# Altium schematic symbol library Diode - TVS.SchLib: 371 symbols (part 1 of 6)
Pins are listed as number, name and electrical type; pins without a type are passive.

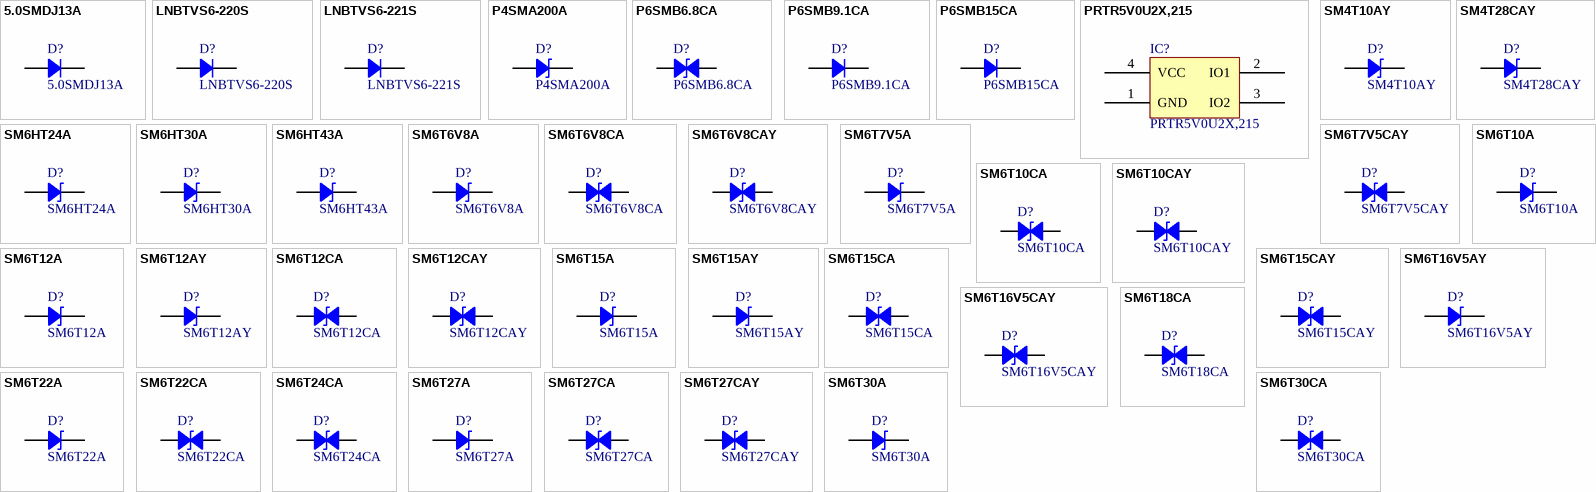
[diagram p0: symbols 5.0SMDJ13A to SM6T30CA]

## 5.0SMDJ13A
designator D?
TVS DIODE 13VWM 21.5VC SMD; Manufacturer: Littelfuse Inc.; Type: Surface Mount; Power - Peak Pulse: 5000W (5kW); Current - Peak Pulse: 233A; Voltage (Clamping): 21.5V; Voltage (Breakdown): 14.4V; Voltage (Reverse Standoff): 13V; Part Number: 5.0SMDJ13A; PartId: 7775; Supplier 1: Digi-Key; Supplier Part Number 1: F6609TR-ND; ComponentLink1Description: Datasheet; ComponentLink1URL: http://www.littelfuse.com/products/tvs-diodes/surface-mount/~/media/electronics/datasheets/tvs_diodes/littelfuse_tvs_diode_5_0smdj_datasheet.pdf.pdf; ComponentLink2Description: Digi-Key Listing; ComponentLink2URL: http://www.digikey.ca/product-detail/en/5.0SMDJ13A/F6609TR-ND/2024306; Operating Temperature: -55C ~ 150C (TJ); Price: 1.0417; Device Package: DO-214AB, SMC
footprint DO214AB SMC
pins: 1, 2

## LNBTVS6-220S
designator D?
TVS DIODE 20VWM 35VC SMC; Manufacturer: STMicroelectronics; Type: Surface Mount; Power - Peak Pulse: 22500 (22.5kW); Current - Peak Pulse: 500A (8/20us); Voltage (Clamping): 35V; Voltage (Breakdown): 22V; Voltage (Reverse Standoff): 20V; Part Number: LNBTVS6-220S; PartId: 7783; Supplier 1: Digi-Key; Supplier Part Number 1: 497-4997-2-ND; ComponentLink1Description: Datasheet; ComponentLink1URL: http://www.st.com/web/en/resource/technical/document/datasheet/CD00283815.pdf; ComponentLink2Description: Digi-Key Listing; ComponentLink2URL: http://www.digikey.ca/product-detail/en/LNBTVS6-220S/497-4997-2-ND/1007411; Operating Temperature: -55C ~ 150C (TJ); Price: 0.5582; Device Package: DO-214AB, SMC
footprint DO214AB SMC
pins: 1, 2

## LNBTVS6-221S
designator D?
TVS DIODE 20VWM 32VC SMC; Manufacturer: STMicroelectronics; Type: Surface Mount; Power - Peak Pulse: 22500 (22.5kW); Current - Peak Pulse: 500A (8/20us); Voltage (Clamping): 32V; Voltage (Breakdown): 22V; Voltage (Reverse Standoff): 20V; Part Number: LNBTVS6-221S; PartId: 7784; Supplier 1: Digi-Key; Supplier Part Number 1: 497-4998-2-ND; ComponentLink1Description: Datasheet; ComponentLink1URL: http://www.st.com/web/en/resource/technical/document/datasheet/CD00283815.pdf; ComponentLink2Description: Digi-Key Listing; ComponentLink2URL: http://www.digikey.ca/product-detail/en/LNBTVS6-221S/497-4998-2-ND/1007412; Operating Temperature: -55C ~ 150C (TJ); Price: 0.6787; Device Package: DO-214AB, SMC
footprint DO214AB SMC
pins: 1, 2

## P4SMA200A
designator D?
TVS DIODE 171VWM 274VC DO214AC; Manufacturer: Bourns Inc.; Type: Zener; Unidirectional Channels: 1; Power - Peak Pulse: 400W; Current - Peak Pulse: 1.5A; Voltage (Clamping): 274V; Voltage (Breakdown): 190V; Voltage (Reverse Standoff): 171V; Part Number: P4SMA200A; PartId: 14907; Supplier 1: Digi-Key; Supplier Part Number 1: P4SMA200ABBTR-ND; ComponentLink1Description: Datasheet; ComponentLink1URL: http://www.bourns.com/docs/Product-Datasheets/P4SMA.pdf; ComponentLink2Description: Digi-Key Listing; ComponentLink2URL: https://www.digikey.com/product-detail/en/bourns-inc/P4SMA200A/P4SMA200ABBTR-ND/5313711; Operating Temperature: -55C ~ 150C (TJ); Price: 0.0928; Device Package: DO-214AC, SMA
footprint Bourns DO214AC SMA
pins: 1, 2

## P6SMB6.8CA
designator D?
TVS DIODE 5.8VWM 10.5VC DO214AA; Manufacturer: Bourns Inc.; Type: Zener; Bidirectional Channels: 1; Power - Peak Pulse: 600W; Current - Peak Pulse: 58.1A; Voltage (Clamping): 10.5V; Voltage (Breakdown): 6.45V; Voltage (Reverse Standoff): 5.8V; Part Number: P6SMB6.8CA; PartId: 14722; Supplier 1: Digi-Key; Supplier Part Number 1: P6SMB6.8CABBTR-ND; ComponentLink1Description: Datasheet; ComponentLink1URL: http://www.bourns.com/docs/Product-Datasheets/P6SMB.pdf; ComponentLink2Description: Digi-Key Listing; ComponentLink2URL: https://www.digikey.com/product-detail/en/bourns-inc/P6SMB6.8CA/P6SMB6.8CABBTR-ND/5313715; Operating Temperature: -55C ~ 150C (TJ); Price: 0.1126; Device Package: DO-214AA, SMB
footprint BOURNS DO214AA SMB
pins: 1, 2

## P6SMB9.1CA
designator D?
TVS DIODE 7.78VWM 13.4VC SMD; Manufacturer: Littelfuse Inc.; Type: Surface Mount; Power - Peak Pulse: 600W; Current - Peak Pulse: 45.5A; Voltage (Clamping): 13.4V; Voltage (Breakdown): 8.65V; Voltage (Reverse Standoff): 7.78V; Part Number: P6SMB9.1CA; PartId: 7766; Supplier 1: Digi-Key; Supplier Part Number 1: P6SMB9.1CALFTR-ND; ComponentLink1Description: Datasheet; ComponentLink1URL: http://www.littelfuse.com/~/media/electronics/datasheets/tvs_diodes/littelfuse_tvs_diode_p6smb_datasheet.pdf.pdf; ComponentLink2Description: Digi-Key Listing; ComponentLink2URL: http://www.digikey.ca/product-detail/en/P6SMB9.1CA/P6SMB9.1CALFTR-ND/1766646; Operating Temperature: -55C ~ 150C (TJ); Price: 0.2401; Device Package: DO-214AA, SMB
footprint DO214AA SMB
pins: 1, 2

## P6SMB15CA
designator D?
TVS DIODE 12.8VWM 21.2VC SMD; Manufacturer: Littelfuse Inc.; Type: Surface Mount; Power - Peak Pulse: 600W; Current - Peak Pulse: 28.8A; Voltage (Clamping): 21.2V; Voltage (Breakdown): 14.3V; Voltage (Reverse Standoff): 12.8V; Part Number: P6SMB15CA; PartId: 7771; Supplier 1: Digi-Key; Supplier Part Number 1: P6SMB15CALFTR-ND; ComponentLink1Description: Datasheet; ComponentLink1URL: http://www.littelfuse.com/~/media/electronics/datasheets/tvs_diodes/littelfuse_tvs_diode_p6smb_datasheet.pdf.pdf; ComponentLink2Description: Digi-Key Listing; ComponentLink2URL: http://www.digikey.ca/product-detail/en/P6SMB15CA/P6SMB15CALFTR-ND/1766581; Operating Temperature: -55C ~ 150C (TJ); Price: 0.2401; Device Package: DO-214AA, SMB
footprint DO214AA SMB
pins: 1, 2

## PRTR5V0U2X,215
designator IC?
TVS DIODE 5.5VWM SOT143B; Manufacturer: NXP Semiconductors; Voltage (Breakdown): 6V; Voltage (Reverse Standoff): 5.5V (Max); Part Number: PRTR5V0U2X,215; PartId: 9755; Supplier 1: Digi-Key; Supplier Part Number 1: 568-4140-2-ND; ComponentLink1Description: Datasheet; ComponentLink1URL: http://www.nxp.com/documents/data_sheet/PRTR5V0U2X.pdf; ComponentLink2Description: Digi-Key Listing; ComponentLink2URL: http://www.digikey.com/product-detail/en/nxp-semiconductors/PRTR5V0U2X,215/568-4140-2-ND/1163690; Operating Temperature: -40C ~ 85C (TA); Price: 0.1794; Type: Steering (Rail to Rail); Device Package: TO-253-4, TO-253AA; Power - Peak Pulse: -; Current - Peak Pulse: -; Voltage (Clamping): -
footprint SOT143B
pins: 1 GND, 2 IO1, 3 IO2, 4 VCC

## SM4T10AY
designator D?
TVS DIODE 8.5VWM 19.5VC SMA; Manufacturer: STMicroelectronics; Type: Zener; Unidirectional Channels: 1; Power - Peak Pulse: 400W; Current - Peak Pulse: 124A (8/20us); Voltage (Clamping): 19.5V; Voltage (Breakdown): 9.4V; Voltage (Reverse Standoff): 8.5V; Part Number: SM4T10AY; PartId: 14931; Supplier 1: Digi-Key; Supplier Part Number 1: 497-11788-2-ND; ComponentLink1Description: Datasheet; ComponentLink1URL: http://www.st.com/web/en/resource/technical/document/datasheet/CD00283395.pdf; ComponentLink2Description: Digi-Key Listing; ComponentLink2URL: https://www.digikey.com/product-detail/en/stmicroelectronics/SM4T10AY/497-11788-2-ND/2756431; Operating Temperature: -55C ~ 150C (TJ); Price: 0.174; Device Package: DO-214AC, SMA
footprint ST DO214AC SMA
pins: 1, 2

## SM4T28CAY
designator D?
TVS DIODE 24VWM 50VC SMA; Manufacturer: STMicroelectronics; Type: Zener; Bidirectional Channels: 1; Power - Peak Pulse: 400W; Current - Peak Pulse: 46A (8/20us); Voltage (Clamping): 50V; Voltage (Breakdown): 26.7V; Voltage (Reverse Standoff): 24V; Part Number: SM4T28CAY; PartId: 14958; Supplier 1: Digi-Key; Supplier Part Number 1: 497-10917-2-ND; ComponentLink1Description: Datasheet; ComponentLink1URL: http://www.st.com/web/en/resource/technical/document/datasheet/CD00283395.pdf; ComponentLink2Description: Digi-Key Listing; ComponentLink2URL: https://www.digikey.com/product-detail/en/stmicroelectronics/SM4T28CAY/497-10917-2-ND/2522440; Operating Temperature: -55C ~ 150C (TJ); Price: 0.3105; Device Package: DO-214AC, SMA
footprint ST DO214AC SMA
pins: 1, 2

## SM6HT24A
designator D?
TVS DIODE 20.5VWM 33.2VC SMB; Manufacturer: STMicroelectronics; Type: Zener; Unidirectional Channels: 1; Power - Peak Pulse: 600W; Current - Peak Pulse: 18A; Voltage (Clamping): 33.2V; Voltage (Breakdown): 22.8V; Voltage (Reverse Standoff): 20.5V; Part Number: SM6HT24A; PartId: 14656; Supplier 1: Digi-Key; Supplier Part Number 1: 497-7423-2-ND; ComponentLink1Description: Datasheet; ComponentLink1URL: http://www.st.com/web/en/resource/technical/document/datasheet/CD00001782.pdf; ComponentLink2Description: Digi-Key Listing; ComponentLink2URL: https://www.digikey.com/product-detail/en/stmicroelectronics/SM6HT24A/497-7423-2-ND/1039063; Operating Temperature: -65C ~ 175C (TJ); Price: 0.2755; Device Package: DO-214AA, SMB
footprint ST DO214AA SMB
pins: 1, 2

## SM6HT30A
designator D?
TVS DIODE 25.6VWM DO214AA; Manufacturer: STMicroelectronics; Type: Zener; Unidirectional Channels: 1; Power - Peak Pulse: 600W; Current - Peak Pulse: 14.5A; Voltage (Clamping): 41.5V; Voltage (Breakdown): 28.5V; Voltage (Reverse Standoff): 25.6V; Part Number: SM6HT30A; PartId: 14655; Supplier 1: Digi-Key; Supplier Part Number 1: 497-3506-2-ND; ComponentLink1Description: Datasheet; ComponentLink1URL: http://www.st.com/web/en/resource/technical/document/datasheet/CD00001782.pdf; ComponentLink2Description: Digi-Key Listing; ComponentLink2URL: https://www.digikey.com/product-detail/en/stmicroelectronics/SM6HT30A/497-3506-2-ND/669347; Operating Temperature: -65C ~ 175C (TJ); Price: 0.2242; Device Package: DO-214AA, SMB
footprint ST DO214AA SMB
pins: 1, 2

## SM6HT43A
designator D?
TVS DIODE 36.8VWM 59.3VC SMB; Manufacturer: STMicroelectronics; Type: Zener; Unidirectional Channels: 1; Power - Peak Pulse: 600W; Current - Peak Pulse: 10.1A; Voltage (Clamping): 59.3V; Voltage (Breakdown): 40.9V; Voltage (Reverse Standoff): 36.8V; Part Number: SM6HT43A; PartId: 14657; Supplier 1: Digi-Key; Supplier Part Number 1: 497-7425-2-ND; ComponentLink1Description: Datasheet; ComponentLink1URL: http://www.st.com/web/en/resource/technical/document/datasheet/CD00001782.pdf; ComponentLink2Description: Digi-Key Listing; ComponentLink2URL: https://www.digikey.com/product-detail/en/stmicroelectronics/SM6HT43A/497-7425-2-ND/1039067; Operating Temperature: -65C ~ 175C (TJ); Price: 0.2755; Device Package: DO-214AA, SMB
footprint ST DO214AA SMB
pins: 1, 2

## SM6T6V8A
designator D?
TVS DIODE 5.8VWM 13.4VC SMB; Manufacturer: STMicroelectronics; Type: Zener; Unidirectional Channels: 1; Power - Peak Pulse: 600W; Current - Peak Pulse: 298A (8/20us); Voltage (Clamping): 13.4V; Voltage (Breakdown): 6.45V; Voltage (Reverse Standoff): 5.8V; Part Number: SM6T6V8A; PartId: 14626; Supplier 1: Digi-Key; Supplier Part Number 1: 497-6501-2-ND; ComponentLink1Description: Datasheet; ComponentLink1URL: http://www.st.com/web/en/resource/technical/document/datasheet/CD00000725.pdf; ComponentLink2Description: Digi-Key Listing; ComponentLink2URL: https://www.digikey.com/product-detail/en/stmicroelectronics/SM6T6V8A/497-6501-2-ND/1039097; Operating Temperature: -55C ~ 150C (TJ); Price: 0.1072; Device Package: DO-214AA, SMB
footprint ST DO214AA SMB
pins: 1, 2

## SM6T6V8CA
designator D?
TVS DIODE 5.8VWM 13.4VC DO214AA; Manufacturer: STMicroelectronics; Type: Zener; Bidirectional Channels: 1; Power - Peak Pulse: 600W; Current - Peak Pulse: 298A (8/20us); Voltage (Clamping): 13.4V; Voltage (Breakdown): 6.45V; Voltage (Reverse Standoff): 5.8V; Part Number: SM6T6V8CA; PartId: 14671; Supplier 1: Digi-Key; Supplier Part Number 1: 497-2995-2-ND; ComponentLink1Description: Datasheet; ComponentLink1URL: http://www.st.com/web/en/resource/technical/document/datasheet/CD00000725.pdf; ComponentLink2Description: Digi-Key Listing; ComponentLink2URL: https://www.digikey.com/product-detail/en/stmicroelectronics/SM6T6V8CA/497-2995-2-ND/634759; Operating Temperature: -55C ~ 150C (TJ); Price: 0.1435; Device Package: DO-214AA, SMB
footprint ST DO214AA SMB
pins: 1, 2

## SM6T6V8CAY
designator D?
TVS DIODE 5.8VWM 13.4VC SMB; Manufacturer: STMicroelectronics; Type: Zener; Bidirectional Channels: 1; Power - Peak Pulse: 600W; Current - Peak Pulse: 298A (8/20us); Voltage (Clamping): 13.4V; Voltage (Breakdown): 6.45V; Voltage (Reverse Standoff): 5.8V; Part Number: SM6T6V8CAY; PartId: 14704; Supplier 1: Digi-Key; Supplier Part Number 1: 497-11813-2-ND; ComponentLink1Description: Datasheet; ComponentLink1URL: http://www.st.com/web/en/resource/technical/document/datasheet/CD00279657.pdf; ComponentLink2Description: Digi-Key Listing; ComponentLink2URL: https://www.digikey.com/product-detail/en/stmicroelectronics/SM6T6V8CAY/497-11813-2-ND/2756532; Operating Temperature: -55C ~ 150C (TJ); Price: 0.2334; Device Package: DO-214AA, SMB
footprint ST DO214AA SMB
pins: 1, 2

## SM6T7V5A
designator D?
TVS DIODE 6.4VWM 14.5VC SMB; Manufacturer: STMicroelectronics; Type: Zener; Unidirectional Channels: 1; Power - Peak Pulse: 600W; Current - Peak Pulse: 276A (8/20us); Voltage (Clamping): 14.5V; Voltage (Breakdown): 7.13V; Voltage (Reverse Standoff): 6.4V; Part Number: SM6T7V5A; PartId: 14643; Supplier 1: Digi-Key; Supplier Part Number 1: 497-7439-2-ND; ComponentLink1Description: Datasheet; ComponentLink1URL: http://www.st.com/web/en/resource/technical/document/datasheet/CD00000725.pdf; ComponentLink2Description: Digi-Key Listing; ComponentLink2URL: https://www.digikey.com/product-detail/en/stmicroelectronics/SM6T7V5A/497-7439-2-ND/1039098; Operating Temperature: -55C ~ 150C (TJ); Price: 0.1336; Device Package: DO-214AA, SMB
footprint ST DO214AA SMB
pins: 1, 2

## SM6T7V5CAY
designator D?
TVS DIODE 6.4VWM 14.5VC SMB; Manufacturer: STMicroelectronics; Type: Zener; Bidirectional Channels: 1; Power - Peak Pulse: 600W; Current - Peak Pulse: 276A (8/20us); Voltage (Clamping): 14.5V; Voltage (Breakdown): 7.13V; Voltage (Reverse Standoff): 6.4V; Part Number: SM6T7V5CAY; PartId: 14705; Supplier 1: Digi-Key; Supplier Part Number 1: 497-11816-2-ND; ComponentLink1Description: Datasheet; ComponentLink1URL: http://www.st.com/web/en/resource/technical/document/datasheet/CD00279657.pdf; ComponentLink2Description: Digi-Key Listing; ComponentLink2URL: https://www.digikey.com/product-detail/en/stmicroelectronics/SM6T7V5CAY/497-11816-2-ND/2756541; Operating Temperature: -55C ~ 150C (TJ); Price: 0.2334; Device Package: DO-214AA, SMB
footprint ST DO214AA SMB
pins: 1, 2

## SM6T10A
designator D?
TVS DIODE 8.55VWM 18.6VC SMB; Manufacturer: STMicroelectronics; Type: Zener; Unidirectional Channels: 1; Power - Peak Pulse: 600W; Current - Peak Pulse: 215A (8/20us); Voltage (Clamping): 18.6V; Voltage (Breakdown): 9.5V; Voltage (Reverse Standoff): 8.55V; Part Number: SM6T10A; PartId: 14644; Supplier 1: Digi-Key; Supplier Part Number 1: 497-14166-2-ND; ComponentLink1Description: Datasheet; ComponentLink1URL: http://www.st.com/web/en/resource/technical/document/datasheet/CD00000725.pdf; ComponentLink2Description: Digi-Key Listing; ComponentLink2URL: https://www.digikey.com/product-detail/en/stmicroelectronics/SM6T10A/497-14166-2-ND/1039070; Operating Temperature: -55C ~ 150C (TJ); Price: 0.1336; Device Package: DO-214AA, SMB
footprint ST DO214AA SMB
pins: 1, 2

## SM6T10CA
designator D?
TVS DIODE 8.55VWM 18.6VC SMB; Manufacturer: STMicroelectronics; Type: Zener; Bidirectional Channels: 1; Power - Peak Pulse: 600W; Current - Peak Pulse: 215A (8/20us); Voltage (Clamping): 18.6V; Voltage (Breakdown): 9.5V; Voltage (Reverse Standoff): 8.55V; Part Number: SM6T10CA; PartId: 14673; Supplier 1: Digi-Key; Supplier Part Number 1: 497-7427-2-ND; ComponentLink1Description: Datasheet; ComponentLink1URL: http://www.st.com/web/en/resource/technical/document/datasheet/CD00000725.pdf; ComponentLink2Description: Digi-Key Listing; ComponentLink2URL: https://www.digikey.com/product-detail/en/stmicroelectronics/SM6T10CA/497-7427-2-ND/1039071; Operating Temperature: -55C ~ 150C (TJ); Price: 0.1435; Device Package: DO-214AA, SMB
footprint ST DO214AA SMB
pins: 1, 2

## SM6T10CAY
designator D?
TVS DIODE 8.55VWM 18.6VC SMB; Manufacturer: STMicroelectronics; Type: Zener; Bidirectional Channels: 1; Power - Peak Pulse: 600W; Current - Peak Pulse: 215A (8/20us); Voltage (Clamping): 18.6V; Voltage (Breakdown): 9.5V; Voltage (Reverse Standoff): 8.55V; Part Number: SM6T10CAY; PartId: 14707; Supplier 1: Digi-Key; Supplier Part Number 1: 497-11804-2-ND; ComponentLink1Description: Datasheet; ComponentLink1URL: http://www.st.com/web/en/resource/technical/document/datasheet/CD00279657.pdf; ComponentLink2Description: Digi-Key Listing; ComponentLink2URL: https://www.digikey.com/product-detail/en/stmicroelectronics/SM6T10CAY/497-11804-2-ND/2756537; Operating Temperature: -55C ~ 150C (TJ); Price: 0.2334; Device Package: DO-214AA, SMB
footprint ST DO214AA SMB
pins: 1, 2

## SM6T12A
designator D?
TVS DIODE 10.2VWM 21.7VC SMB; Manufacturer: STMicroelectronics; Type: Zener; Unidirectional Channels: 1; Power - Peak Pulse: 600W; Current - Peak Pulse: 184A (8/20us); Voltage (Clamping): 21.7V; Voltage (Breakdown): 11.4V; Voltage (Reverse Standoff): 10.2V; Part Number: SM6T12A; PartId: 14641; Supplier 1: Digi-Key; Supplier Part Number 1: 497-12775-2-ND; ComponentLink1Description: Datasheet; ComponentLink1URL: http://www.st.com/web/en/resource/technical/document/datasheet/CD00000725.pdf; ComponentLink2Description: Digi-Key Listing; ComponentLink2URL: https://www.digikey.com/product-detail/en/stmicroelectronics/SM6T12A/497-12775-2-ND/1039072; Operating Temperature: -55C ~ 150C (TJ); Price: 0.1336; Device Package: DO-214AA, SMB
footprint ST DO214AA SMB
pins: 1, 2

## SM6T12AY
designator D?
TVS DIODE 10.2VWM 21.7VC SMB; Manufacturer: STMicroelectronics; Type: Zener; Unidirectional Channels: 1; Power - Peak Pulse: 600W; Current - Peak Pulse: 184A (8/20us); Voltage (Clamping): 21.7V; Voltage (Breakdown): 11.4V; Voltage (Reverse Standoff): 10.2V; Part Number: SM6T12AY; PartId: 14652; Supplier 1: Digi-Key; Supplier Part Number 1: 497-11805-2-ND; ComponentLink1Description: Datasheet; ComponentLink1URL: http://www.st.com/web/en/resource/technical/document/datasheet/CD00279657.pdf; ComponentLink2Description: Digi-Key Listing; ComponentLink2URL: https://www.digikey.com/product-detail/en/stmicroelectronics/SM6T12AY/497-11805-2-ND/2756536; Operating Temperature: -55C ~ 150C (TJ); Price: 0.2263; Device Package: DO-214AA, SMB
footprint ST DO214AA SMB
pins: 1, 2

## SM6T12CA
designator D?
TVS DIODE 10.2VWM 21.7VC SMB; Manufacturer: STMicroelectronics; Type: Zener; Bidirectional Channels: 1; Power - Peak Pulse: 600W; Current - Peak Pulse: 184A (8/20us); Voltage (Clamping): 21.7V; Voltage (Breakdown): 11.4V; Voltage (Reverse Standoff): 10.2V; Part Number: SM6T12CA; PartId: 14676; Supplier 1: Digi-Key; Supplier Part Number 1: 497-7428-2-ND; ComponentLink1Description: Datasheet; ComponentLink1URL: http://www.st.com/web/en/resource/technical/document/datasheet/CD00000725.pdf; ComponentLink2Description: Digi-Key Listing; ComponentLink2URL: https://www.digikey.com/product-detail/en/stmicroelectronics/SM6T12CA/497-7428-2-ND/1039073; Operating Temperature: -55C ~ 150C (TJ); Price: 0.1435; Device Package: DO-214AA, SMB
footprint ST DO214AA SMB
pins: 1, 2

## SM6T12CAY
designator D?
TVS DIODE 10.2VWM 21.7VC SMB; Manufacturer: STMicroelectronics; Type: Zener; Bidirectional Channels: 1; Power - Peak Pulse: 600W; Current - Peak Pulse: 184A (8/20us); Voltage (Clamping): 21.7V; Voltage (Breakdown): 11.4V; Voltage (Reverse Standoff): 10.2V; Part Number: SM6T12CAY; PartId: 14703; Supplier 1: Digi-Key; Supplier Part Number 1: 497-11806-2-ND; ComponentLink1Description: Datasheet; ComponentLink1URL: http://www.st.com/web/en/resource/technical/document/datasheet/CD00279657.pdf; ComponentLink2Description: Digi-Key Listing; ComponentLink2URL: https://www.digikey.com/product-detail/en/stmicroelectronics/SM6T12CAY/497-11806-2-ND/2756533; Operating Temperature: -55C ~ 150C (TJ); Price: 0.2334; Device Package: DO-214AA, SMB
footprint ST DO214AA SMB
pins: 1, 2

## SM6T15A
designator D?
TVS DIODE 12.8VWM 27.2VC SMB; Manufacturer: STMicroelectronics; Type: Zener; Unidirectional Channels: 1; Power - Peak Pulse: 600W; Current - Peak Pulse: 147A (8/20us); Voltage (Clamping): 27.2V; Voltage (Breakdown): 14.3V; Voltage (Reverse Standoff): 12.8V; Part Number: SM6T15A; PartId: 14635; Supplier 1: Digi-Key; Supplier Part Number 1: 497-7430-2-ND; ComponentLink1Description: Datasheet; ComponentLink1URL: http://www.st.com/web/en/resource/technical/document/datasheet/CD00000725.pdf; ComponentLink2Description: Digi-Key Listing; ComponentLink2URL: https://www.digikey.com/product-detail/en/stmicroelectronics/SM6T15A/497-7430-2-ND/1039076; Operating Temperature: -55C ~ 150C (TJ); Price: 0.1336; Device Package: DO-214AA, SMB
footprint ST DO214AA SMB
pins: 1, 2

## SM6T15AY
designator D?
TVS DIODE 12.8VWM 27.2VC SMB; Manufacturer: STMicroelectronics; Type: Zener; Unidirectional Channels: 1; Power - Peak Pulse: 600W; Current - Peak Pulse: 147A (8/20us); Voltage (Clamping): 27.2V; Voltage (Breakdown): 14.3V; Voltage (Reverse Standoff): 12.8V; Part Number: SM6T15AY; PartId: 14653; Supplier 1: Digi-Key; Supplier Part Number 1: 497-11807-2-ND; ComponentLink1Description: Datasheet; ComponentLink1URL: http://www.st.com/web/en/resource/technical/document/datasheet/CD00279657.pdf; ComponentLink2Description: Digi-Key Listing; ComponentLink2URL: https://www.digikey.com/product-detail/en/stmicroelectronics/SM6T15AY/497-11807-2-ND/2756535; Operating Temperature: -55C ~ 150C (TJ); Price: 0.2263; Device Package: DO-214AA, SMB
footprint ST DO214AA SMB
pins: 1, 2

## SM6T15CA
designator D?
TVS DIODE 12.8VWM DO214AA; Manufacturer: STMicroelectronics; Type: Zener; Bidirectional Channels: 1; Power - Peak Pulse: 600W; Current - Peak Pulse: 147A (8/20us); Voltage (Clamping): 27.2V; Voltage (Breakdown): 14.3V; Voltage (Reverse Standoff): 12.8V; Part Number: SM6T15CA; PartId: 14666; Supplier 1: Digi-Key; Supplier Part Number 1: 497-2994-2-ND; ComponentLink1Description: Datasheet; ComponentLink1URL: http://www.st.com/web/en/resource/technical/document/datasheet/CD00000725.pdf; ComponentLink2Description: Digi-Key Listing; ComponentLink2URL: https://www.digikey.com/product-detail/en/stmicroelectronics/SM6T15CA/497-2994-2-ND/634758; Operating Temperature: -55C ~ 150C (TJ); Price: 0.1435; Device Package: DO-214AA, SMB
footprint ST DO214AA SMB
pins: 1, 2

## SM6T15CAY
designator D?
TVS DIODE 12.8VWM 27.2VC SMB; Manufacturer: STMicroelectronics; Type: Zener; Bidirectional Channels: 1; Power - Peak Pulse: 600W; Current - Peak Pulse: 147A (8/20us); Voltage (Clamping): 27.2V; Voltage (Breakdown): 14.3V; Voltage (Reverse Standoff): 12.8V; Part Number: SM6T15CAY; PartId: 14706; Supplier 1: Digi-Key; Supplier Part Number 1: 497-11808-2-ND; ComponentLink1Description: Datasheet; ComponentLink1URL: http://www.st.com/web/en/resource/technical/document/datasheet/CD00279657.pdf; ComponentLink2Description: Digi-Key Listing; ComponentLink2URL: https://www.digikey.com/product-detail/en/stmicroelectronics/SM6T15CAY/497-11808-2-ND/2756540; Operating Temperature: -55C ~ 150C (TJ); Price: 0.2334; Device Package: DO-214AA, SMB
footprint ST DO214AA SMB
pins: 1, 2

## SM6T16V5AY
designator D?
TVS DIODE 14.1VWM 29VC SMB; Manufacturer: STMicroelectronics; Type: Zener; Unidirectional Channels: 1; Power - Peak Pulse: 600W; Current - Peak Pulse: 136A (8/20us); Voltage (Clamping): 29V; Voltage (Breakdown): 15.7V; Voltage (Reverse Standoff): 14.1V; Part Number: SM6T16V5AY; PartId: 14648; Supplier 1: Digi-Key; Supplier Part Number 1: 497-15256-2-ND; ComponentLink1Description: Datasheet; ComponentLink1URL: http://www.st.com/web/en/resource/technical/document/datasheet/CD00279657.pdf; ComponentLink2Description: Digi-Key Listing; ComponentLink2URL: https://www.digikey.com/product-detail/en/stmicroelectronics/SM6T16V5AY/497-15256-2-ND/5170601; Operating Temperature: -55C ~ 150C (TJ); Price: 0.1287; Device Package: DO-214AA, SMB
footprint ST DO214AA SMB
pins: 1, 2

## SM6T16V5CAY
designator D?
TVS DIODE 14.1VWM 29VC SMB; Manufacturer: STMicroelectronics; Type: Zener; Bidirectional Channels: 1; Power - Peak Pulse: 600W; Current - Peak Pulse: 136A (8/20us); Voltage (Clamping): 29V; Voltage (Breakdown): 15.7V; Voltage (Reverse Standoff): 14.1V; Part Number: SM6T16V5CAY; PartId: 14697; Supplier 1: Digi-Key; Supplier Part Number 1: 497-15257-2-ND; ComponentLink1Description: Datasheet; ComponentLink1URL: http://www.st.com/web/en/resource/technical/document/datasheet/CD00279657.pdf; ComponentLink2Description: Digi-Key Listing; ComponentLink2URL: https://www.digikey.com/product-detail/en/stmicroelectronics/SM6T16V5CAY/497-15257-2-ND/5170602; Operating Temperature: -55C ~ 150C (TJ); Price: 0.1353; Device Package: DO-214AA, SMB
footprint ST DO214AA SMB
pins: 1, 2

## SM6T18CA
designator D?
TVS DIODE 15.3VWM 32.5VC SMB; Manufacturer: STMicroelectronics; Type: Zener; Bidirectional Channels: 1; Power - Peak Pulse: 600W; Current - Peak Pulse: 123A (8/20us); Voltage (Clamping): 32.5V; Voltage (Breakdown): 17.1V; Voltage (Reverse Standoff): 15.3V; Part Number: SM6T18CA; PartId: 14669; Supplier 1: Digi-Key; Supplier Part Number 1: 497-3717-2-ND; ComponentLink1Description: Datasheet; ComponentLink1URL: http://www.st.com/web/en/resource/technical/document/datasheet/CD00000725.pdf; ComponentLink2Description: Digi-Key Listing; ComponentLink2URL: https://www.digikey.com/product-detail/en/stmicroelectronics/SM6T18CA/497-3717-2-ND/686396; Operating Temperature: -55C ~ 150C (TJ); Price: 0.1435; Device Package: DO-214AA, SMB
footprint ST DO214AA SMB
pins: 1, 2

## SM6T22A
designator D?
TVS DIODE 18.8VWM 39.3VC SMB; Manufacturer: STMicroelectronics; Type: Zener; Unidirectional Channels: 1; Power - Peak Pulse: 600W; Current - Peak Pulse: 102A (8/20us); Voltage (Clamping): 39.3V; Voltage (Breakdown): 20.9V; Voltage (Reverse Standoff): 18.8V; Part Number: SM6T22A; PartId: 14628; Supplier 1: Digi-Key; Supplier Part Number 1: 497-6491-2-ND; ComponentLink1Description: Datasheet; ComponentLink1URL: http://www.st.com/web/en/resource/technical/document/datasheet/CD00000725.pdf; ComponentLink2Description: Digi-Key Listing; ComponentLink2URL: https://www.digikey.com/product-detail/en/stmicroelectronics/SM6T22A/497-6491-2-ND/1039082; Operating Temperature: -55C ~ 150C (TJ); Price: 0.1336; Device Package: DO-214AA, SMB
footprint ST DO214AA SMB
pins: 1, 2

## SM6T22CA
designator D?
TVS DIODE 18.8VWM 39.3VC SMB; Manufacturer: STMicroelectronics; Type: Zener; Bidirectional Channels: 1; Power - Peak Pulse: 600W; Current - Peak Pulse: 102A (8/20us); Voltage (Clamping): 39.3V; Voltage (Breakdown): 20.9V; Voltage (Reverse Standoff): 18.8V; Part Number: SM6T22CA; PartId: 14694; Supplier 1: Digi-Key; Supplier Part Number 1: 497-3507-2-ND; ComponentLink1Description: Datasheet; ComponentLink1URL: http://www.st.com/web/en/resource/technical/document/datasheet/CD00000725.pdf; ComponentLink2Description: Digi-Key Listing; ComponentLink2URL: https://www.digikey.com/product-detail/en/stmicroelectronics/SM6T22CA/497-3507-2-ND/669349; Operating Temperature: -55C ~ 150C (TJ); Price: 0.1435; Device Package: DO-214AA, SMB
footprint ST DO214AA SMB
pins: 1, 2

## SM6T24CA
designator D?
TVS DIODE 20.5VWM 42.8VC SMB; Manufacturer: STMicroelectronics; Type: Zener; Bidirectional Channels: 1; Power - Peak Pulse: 600W; Current - Peak Pulse: 93A (8/20us); Voltage (Clamping): 42.8V; Voltage (Breakdown): 22.8V; Voltage (Reverse Standoff): 20.5V; Part Number: SM6T24CA; PartId: 14689; Supplier 1: Digi-Key; Supplier Part Number 1: 497-7434-2-ND; ComponentLink1Description: Datasheet; ComponentLink1URL: http://www.st.com/web/en/resource/technical/document/datasheet/CD00000725.pdf; ComponentLink2Description: Digi-Key Listing; ComponentLink2URL: https://www.digikey.com/product-detail/en/stmicroelectronics/SM6T24CA/497-7434-2-ND/1039084; Operating Temperature: -55C ~ 150C (TJ); Price: 0.1435; Device Package: DO-214AA, SMB
footprint ST DO214AA SMB
pins: 1, 2

## SM6T27A
designator D?
TVS DIODE 23.1VWM 48.3VC SMB; Manufacturer: STMicroelectronics; Type: Zener; Unidirectional Channels: 1; Power - Peak Pulse: 600W; Current - Peak Pulse: 83A (8/20us); Voltage (Clamping): 48.3V; Voltage (Breakdown): 25.7V; Voltage (Reverse Standoff): 23.1V; Part Number: SM6T27A; PartId: 14634; Supplier 1: Digi-Key; Supplier Part Number 1: 497-7435-2-ND; ComponentLink1Description: Datasheet; ComponentLink1URL: http://www.st.com/web/en/resource/technical/document/datasheet/CD00000725.pdf; ComponentLink2Description: Digi-Key Listing; ComponentLink2URL: https://www.digikey.com/product-detail/en/stmicroelectronics/SM6T27A/497-7435-2-ND/1039085; Operating Temperature: -55C ~ 150C (TJ); Price: 0.1336; Device Package: DO-214AA, SMB
footprint ST DO214AA SMB
pins: 1, 2

## SM6T27CA
designator D?
TVS DIODE 23.1VWM 48.3VC SMB; Manufacturer: STMicroelectronics; Type: Zener; Bidirectional Channels: 1; Power - Peak Pulse: 600W; Current - Peak Pulse: 83A (8/20us); Voltage (Clamping): 48.3V; Voltage (Breakdown): 25.7V; Voltage (Reverse Standoff): 23.1V; Part Number: SM6T27CA; PartId: 14688; Supplier 1: Digi-Key; Supplier Part Number 1: 497-7436-2-ND; ComponentLink1Description: Datasheet; ComponentLink1URL: http://www.st.com/web/en/resource/technical/document/datasheet/CD00000725.pdf; ComponentLink2Description: Digi-Key Listing; ComponentLink2URL: https://www.digikey.com/product-detail/en/stmicroelectronics/SM6T27CA/497-7436-2-ND/1039086; Operating Temperature: -55C ~ 150C (TJ); Price: 0.1435; Device Package: DO-214AA, SMB
footprint ST DO214AA SMB
pins: 1, 2

## SM6T27CAY
designator D?
TVS DIODE 23.1VWM 48.3VC SMB; Manufacturer: STMicroelectronics; Type: Zener; Bidirectional Channels: 1; Power - Peak Pulse: 600W; Current - Peak Pulse: 83A (8/20us); Voltage (Clamping): 48.3V; Voltage (Breakdown): 25.7V; Voltage (Reverse Standoff): 23.1V; Part Number: SM6T27CAY; PartId: 14699; Supplier 1: Digi-Key; Supplier Part Number 1: 497-10798-2-ND; ComponentLink1Description: Datasheet; ComponentLink1URL: http://www.st.com/web/en/resource/technical/document/datasheet/CD00279657.pdf; ComponentLink2Description: Digi-Key Listing; ComponentLink2URL: https://www.digikey.com/product-detail/en/stmicroelectronics/SM6T27CAY/497-10798-2-ND/2442923; Operating Temperature: -55C ~ 150C (TJ); Price: 0.3822; Device Package: DO-214AA, SMB
footprint ST DO214AA SMB
pins: 1, 2

## SM6T30A
designator D?
TVS DIODE 25.6VWM 53.5VC SMB; Manufacturer: STMicroelectronics; Type: Zener; Unidirectional Channels: 1; Power - Peak Pulse: 600W; Current - Peak Pulse: 75A (8/20us); Voltage (Clamping): 53.5V; Voltage (Breakdown): 28.5V; Voltage (Reverse Standoff): 25.6V; Part Number: SM6T30A; PartId: 14629; Supplier 1: Digi-Key; Supplier Part Number 1: 497-7437-2-ND; ComponentLink1Description: Datasheet; ComponentLink1URL: http://www.st.com/web/en/resource/technical/document/datasheet/CD00000725.pdf; ComponentLink2Description: Digi-Key Listing; ComponentLink2URL: https://www.digikey.com/product-detail/en/stmicroelectronics/SM6T30A/497-7437-2-ND/1039087; Operating Temperature: -55C ~ 150C (TJ); Price: 0.1336; Device Package: DO-214AA, SMB
footprint ST DO214AA SMB
pins: 1, 2

## SM6T30CA
designator D?
TVS DIODE 25.6VWM 53.5VC SMB; Manufacturer: STMicroelectronics; Type: Zener; Bidirectional Channels: 1; Power - Peak Pulse: 600W; Current - Peak Pulse: 75A (8/20us); Voltage (Clamping): 53.5V; Voltage (Breakdown): 28.5V; Voltage (Reverse Standoff): 25.6V; Part Number: SM6T30CA; PartId: 14668; Supplier 1: Digi-Key; Supplier Part Number 1: 497-6492-2-ND; ComponentLink1Description: Datasheet; ComponentLink1URL: http://www.st.com/web/en/resource/technical/document/datasheet/CD00000725.pdf; ComponentLink2Description: Digi-Key Listing; ComponentLink2URL: https://www.digikey.com/product-detail/en/stmicroelectronics/SM6T30CA/497-6492-2-ND/1039088; Operating Temperature: -55C ~ 150C (TJ); Price: 0.1435; Device Package: DO-214AA, SMB
footprint ST DO214AA SMB
pins: 1, 2

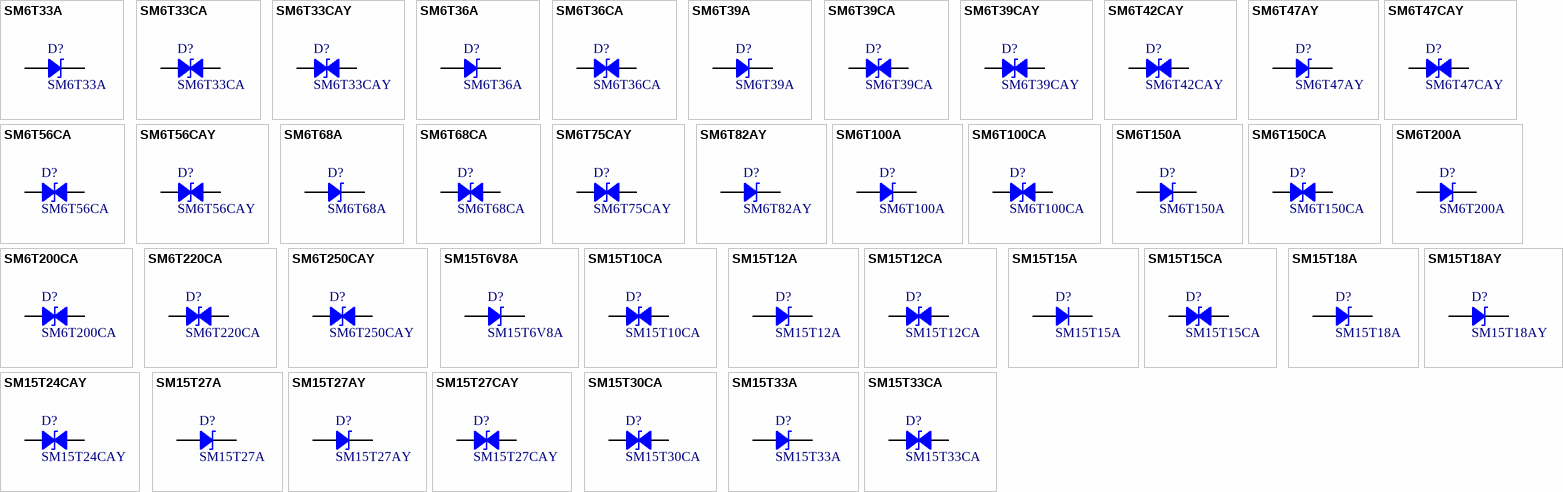
[diagram p1: symbols SM6T33A to SM15T33CA]

## SM6T33A
designator D?
TVS DIODE 28.2VWM 59VC SMB; Manufacturer: STMicroelectronics; Type: Zener; Unidirectional Channels: 1; Power - Peak Pulse: 600W; Current - Peak Pulse: 68A (8/20us); Voltage (Clamping): 59V; Voltage (Breakdown): 31.4V; Voltage (Reverse Standoff): 28.2V; Part Number: SM6T33A; PartId: 14630; Supplier 1: Digi-Key; Supplier Part Number 1: 497-6493-2-ND; ComponentLink1Description: Datasheet; ComponentLink1URL: http://www.st.com/web/en/resource/technical/document/datasheet/CD00000725.pdf; ComponentLink2Description: Digi-Key Listing; ComponentLink2URL: https://www.digikey.com/product-detail/en/stmicroelectronics/SM6T33A/497-6493-2-ND/1039089; Operating Temperature: -55C ~ 150C (TJ); Price: 0.1336; Device Package: DO-214AA, SMB
footprint ST DO214AA SMB
pins: 1, 2

## SM6T33CA
designator D?
TVS DIODE 28.2VWM 59VC SMB; Manufacturer: STMicroelectronics; Type: Zener; Bidirectional Channels: 1; Power - Peak Pulse: 600W; Current - Peak Pulse: 68A (8/20us); Voltage (Clamping): 59V; Voltage (Breakdown): 31.4V; Voltage (Reverse Standoff): 28.2V; Part Number: SM6T33CA; PartId: 14685; Supplier 1: Digi-Key; Supplier Part Number 1: 497-6494-2-ND; ComponentLink1Description: Datasheet; ComponentLink1URL: http://www.st.com/web/en/resource/technical/document/datasheet/CD00000725.pdf; ComponentLink2Description: Digi-Key Listing; ComponentLink2URL: https://www.digikey.com/product-detail/en/stmicroelectronics/SM6T33CA/497-6494-2-ND/1039090; Operating Temperature: -55C ~ 150C (TJ); Price: 0.127; Device Package: DO-214AA, SMB
footprint ST DO214AA SMB
pins: 1, 2

## SM6T33CAY
designator D?
TVS DIODE 28.2VWM 59VC SMB; Manufacturer: STMicroelectronics; Type: Zener; Bidirectional Channels: 1; Power - Peak Pulse: 600W; Current - Peak Pulse: 68A (8/20us); Voltage (Clamping): 59V; Voltage (Breakdown): 31.4V; Voltage (Reverse Standoff): 28.2V; Part Number: SM6T33CAY; PartId: 14691; Supplier 1: Digi-Key; Supplier Part Number 1: 497-10802-2-ND; ComponentLink1Description: Datasheet; ComponentLink1URL: http://www.st.com/web/en/resource/technical/document/datasheet/CD00279657.pdf; ComponentLink2Description: Digi-Key Listing; ComponentLink2URL: https://www.digikey.com/product-detail/en/stmicroelectronics/SM6T33CAY/497-10802-2-ND/2442920; Operating Temperature: -55C ~ 150C (TJ); Price: 0.2479; Device Package: DO-214AA, SMB
footprint ST DO214AA SMB
pins: 1, 2

## SM6T36A
designator D?
TVS DIODE 30.8VWM 64.3VC SMB; Manufacturer: STMicroelectronics; Type: Zener; Unidirectional Channels: 1; Power - Peak Pulse: 600W; Current - Peak Pulse: 62A (8/20us); Voltage (Clamping): 64.3V; Voltage (Breakdown): 34.2V; Voltage (Reverse Standoff): 30.8V; Part Number: SM6T36A; PartId: 14627; Supplier 1: Digi-Key; Supplier Part Number 1: 497-6495-2-ND; ComponentLink1Description: Datasheet; ComponentLink1URL: http://www.st.com/web/en/resource/technical/document/datasheet/CD00000725.pdf; ComponentLink2Description: Digi-Key Listing; ComponentLink2URL: https://www.digikey.com/product-detail/en/stmicroelectronics/SM6T36A/497-6495-2-ND/1039091; Operating Temperature: -55C ~ 150C (TJ); Price: 0.1237; Device Package: DO-214AA, SMB
footprint ST DO214AA SMB
pins: 1, 2

## SM6T36CA
designator D?
TVS DIODE 30.8VWM 64.3VC SMB; Manufacturer: STMicroelectronics; Type: Zener; Bidirectional Channels: 1; Power - Peak Pulse: 600W; Current - Peak Pulse: 62A (8/20us); Voltage (Clamping): 64.3V; Voltage (Breakdown): 34.2V; Voltage (Reverse Standoff): 30.8V; Part Number: SM6T36CA; PartId: 14667; Supplier 1: Digi-Key; Supplier Part Number 1: 497-6496-2-ND; ComponentLink1Description: Datasheet; ComponentLink1URL: http://www.st.com/web/en/resource/technical/document/datasheet/CD00000725.pdf; ComponentLink2Description: Digi-Key Listing; ComponentLink2URL: https://www.digikey.com/product-detail/en/stmicroelectronics/SM6T36CA/497-6496-2-ND/1039092; Operating Temperature: -55C ~ 150C (TJ); Price: 0.1435; Device Package: DO-214AA, SMB
footprint ST DO214AA SMB
pins: 1, 2

## SM6T39A
designator D?
TVS DIODE 33.3VWM 69.7VC SMB; Manufacturer: STMicroelectronics; Type: Zener; Unidirectional Channels: 1; Power - Peak Pulse: 600W; Current - Peak Pulse: 57A (8/20us); Voltage (Clamping): 69.7V; Voltage (Breakdown): 37.1V; Voltage (Reverse Standoff): 33.3V; Part Number: SM6T39A; PartId: 14633; Supplier 1: Digi-Key; Supplier Part Number 1: 497-6497-2-ND; ComponentLink1Description: Datasheet; ComponentLink1URL: http://www.st.com/web/en/resource/technical/document/datasheet/CD00000725.pdf; ComponentLink2Description: Digi-Key Listing; ComponentLink2URL: https://www.digikey.com/product-detail/en/stmicroelectronics/SM6T39A/497-6497-2-ND/1039093; Operating Temperature: -55C ~ 150C (TJ); Price: 0.1336; Device Package: DO-214AA, SMB
footprint ST DO214AA SMB
pins: 1, 2

## SM6T39CA
designator D?
TVS DIODE 33.3VWM 69.7VC SMB; Manufacturer: STMicroelectronics; Type: Zener; Bidirectional Channels: 1; Power - Peak Pulse: 600W; Current - Peak Pulse: 57A (8/20us); Voltage (Clamping): 69.7V; Voltage (Breakdown): 37.1V; Voltage (Reverse Standoff): 33.3V; Part Number: SM6T39CA; PartId: 14675; Supplier 1: Digi-Key; Supplier Part Number 1: 497-6498-2-ND; ComponentLink1Description: Datasheet; ComponentLink1URL: http://www.st.com/web/en/resource/technical/document/datasheet/CD00000725.pdf; ComponentLink2Description: Digi-Key Listing; ComponentLink2URL: https://www.digikey.com/product-detail/en/stmicroelectronics/SM6T39CA/497-6498-2-ND/1039094; Operating Temperature: -55C ~ 150C (TJ); Price: 0.1435; Device Package: DO-214AA, SMB
footprint ST DO214AA SMB
pins: 1, 2

## SM6T39CAY
designator D?
TVS DIODE 33.3VWM 69.7VC SMB; Manufacturer: STMicroelectronics; Type: Zener; Bidirectional Channels: 1; Power - Peak Pulse: 600W; Current - Peak Pulse: 57A (8/20us); Voltage (Clamping): 69.7V; Voltage (Breakdown): 37.1V; Voltage (Reverse Standoff): 33.3V; Part Number: SM6T39CAY; PartId: 14692; Supplier 1: Digi-Key; Supplier Part Number 1: 497-10806-2-ND; ComponentLink1Description: Datasheet; ComponentLink1URL: http://www.st.com/web/en/resource/technical/document/datasheet/CD00279657.pdf; ComponentLink2Description: Digi-Key Listing; ComponentLink2URL: https://www.digikey.com/product-detail/en/stmicroelectronics/SM6T39CAY/497-10806-2-ND/2442903; Operating Temperature: -55C ~ 150C (TJ); Price: 0.3822; Device Package: DO-214AA, SMB
footprint ST DO214AA SMB
pins: 1, 2

## SM6T42CAY
designator D?
TVS DIODE 36VWM 76VC SMB; Manufacturer: STMicroelectronics; Type: Zener; Bidirectional Channels: 1; Power - Peak Pulse: 600W; Current - Peak Pulse: 52A (8/20us); Voltage (Clamping): 76V; Voltage (Breakdown): 40V; Voltage (Reverse Standoff): 36V; Part Number: SM6T42CAY; PartId: 14695; Supplier 1: Digi-Key; Supplier Part Number 1: 497-12193-2-ND; ComponentLink1Description: Datasheet; ComponentLink1URL: http://www.st.com/web/en/resource/technical/document/datasheet/CD00279657.pdf; ComponentLink2Description: Digi-Key Listing; ComponentLink2URL: https://www.digikey.com/product-detail/en/stmicroelectronics/SM6T42CAY/497-12193-2-ND/2826956; Operating Temperature: -55C ~ 150C (TJ); Price: 0.217; Device Package: DO-214AA, SMB
footprint ST DO214AA SMB
pins: 1, 2

## SM6T47AY
designator D?
TVS DIODE 40VWM 84VC SMB; Manufacturer: STMicroelectronics; Type: Zener; Unidirectional Channels: 1; Power - Peak Pulse: 600W; Current - Peak Pulse: 48A (8/20us); Voltage (Clamping): 84V; Voltage (Breakdown): 44.4V; Voltage (Reverse Standoff): 40V; Part Number: SM6T47AY; PartId: 14650; Supplier 1: Digi-Key; Supplier Part Number 1: 497-12194-2-ND; ComponentLink1Description: Datasheet; ComponentLink1URL: http://www.st.com/web/en/resource/technical/document/datasheet/CD00279657.pdf; ComponentLink2Description: Digi-Key Listing; ComponentLink2URL: https://www.digikey.com/product-detail/en/stmicroelectronics/SM6T47AY/497-12194-2-ND/2826957; Operating Temperature: -55C ~ 150C (TJ); Price: 0.1968; Device Package: DO-214AA, SMB
footprint ST DO214AA SMB
pins: 1, 2

## SM6T47CAY
designator D?
TVS DIODE 40VWM 84VC SMB; Manufacturer: STMicroelectronics; Type: Zener; Bidirectional Channels: 1; Power - Peak Pulse: 600W; Current - Peak Pulse: 48A (8/20us); Voltage (Clamping): 84V; Voltage (Breakdown): 44.4V; Voltage (Reverse Standoff): 40V; Part Number: SM6T47CAY; PartId: 14702; Supplier 1: Digi-Key; Supplier Part Number 1: 497-12195-2-ND; ComponentLink1Description: Datasheet; ComponentLink1URL: http://www.st.com/web/en/resource/technical/document/datasheet/CD00279657.pdf; ComponentLink2Description: Digi-Key Listing; ComponentLink2URL: https://www.digikey.com/product-detail/en/stmicroelectronics/SM6T47CAY/497-12195-2-ND/2826958; Operating Temperature: -55C ~ 150C (TJ); Price: 0.217; Device Package: DO-214AA, SMB
footprint ST DO214AA SMB
pins: 1, 2

## SM6T56CA
designator D?
TVS DIODE 47.6VWM 100VC SMB; Manufacturer: STMicroelectronics; Type: Zener; Bidirectional Channels: 1; Power - Peak Pulse: 600W; Current - Peak Pulse: 40A (8/20us); Voltage (Clamping): 100V; Voltage (Breakdown): 53.2V; Voltage (Reverse Standoff): 47.6V; Part Number: SM6T56CA; PartId: 14687; Supplier 1: Digi-Key; Supplier Part Number 1: 497-6499-2-ND; ComponentLink1Description: Datasheet; ComponentLink1URL: http://www.st.com/web/en/resource/technical/document/datasheet/CD00000725.pdf; ComponentLink2Description: Digi-Key Listing; ComponentLink2URL: https://www.digikey.com/product-detail/en/stmicroelectronics/SM6T56CA/497-6499-2-ND/1664297; Operating Temperature: -55C ~ 150C (TJ); Price: 0.1435; Device Package: DO-214AA, SMB
footprint ST DO214AA SMB
pins: 1, 2

## SM6T56CAY
designator D?
TVS DIODE 47.6VWM 100VC SMB; Manufacturer: STMicroelectronics; Type: Zener; Bidirectional Channels: 1; Power - Peak Pulse: 600W; Current - Peak Pulse: 40A (8/20us); Voltage (Clamping): 100V; Voltage (Breakdown): 53.2V; Voltage (Reverse Standoff): 47.6V; Part Number: SM6T56CAY; PartId: 14690; Supplier 1: Digi-Key; Supplier Part Number 1: 497-11811-2-ND; ComponentLink1Description: Datasheet; ComponentLink1URL: http://www.st.com/web/en/resource/technical/document/datasheet/CD00279657.pdf; ComponentLink2Description: Digi-Key Listing; ComponentLink2URL: https://www.digikey.com/product-detail/en/stmicroelectronics/SM6T56CAY/497-11811-2-ND/2756529; Operating Temperature: -55C ~ 150C (TJ); Price: 0.2334; Device Package: DO-214AA, SMB
footprint ST DO214AA SMB
pins: 1, 2

## SM6T68A
designator D?
TVS DIODE 58.1VWM 121VC SMB; Manufacturer: STMicroelectronics; Type: Zener; Unidirectional Channels: 1; Power - Peak Pulse: 600W; Current - Peak Pulse: 33A (8/20us); Voltage (Clamping): 121V; Voltage (Breakdown): 64.6V; Voltage (Reverse Standoff): 58.1V; Part Number: SM6T68A; PartId: 14632; Supplier 1: Digi-Key; Supplier Part Number 1: 497-7438-2-ND; ComponentLink1Description: Datasheet; ComponentLink1URL: http://www.st.com/web/en/resource/technical/document/datasheet/CD00000725.pdf; ComponentLink2Description: Digi-Key Listing; ComponentLink2URL: https://www.digikey.com/product-detail/en/stmicroelectronics/SM6T68A/497-7438-2-ND/1039095; Operating Temperature: -55C ~ 150C (TJ); Price: 0.1336; Device Package: DO-214AA, SMB
footprint ST DO214AA SMB
pins: 1, 2

## SM6T68CA
designator D?
TVS DIODE 58.1VWM 121VC SMB; Manufacturer: STMicroelectronics; Type: Zener; Bidirectional Channels: 1; Power - Peak Pulse: 600W; Current - Peak Pulse: 33A (8/20us); Voltage (Clamping): 121V; Voltage (Breakdown): 64.6V; Voltage (Reverse Standoff): 58.1V; Part Number: SM6T68CA; PartId: 14672; Supplier 1: Digi-Key; Supplier Part Number 1: 497-6500-2-ND; ComponentLink1Description: Datasheet; ComponentLink1URL: http://www.st.com/web/en/resource/technical/document/datasheet/CD00000725.pdf; ComponentLink2Description: Digi-Key Listing; ComponentLink2URL: https://www.digikey.com/product-detail/en/stmicroelectronics/SM6T68CA/497-6500-2-ND/1039096; Operating Temperature: -55C ~ 150C (TJ); Price: 0.1435; Device Package: DO-214AA, SMB
footprint ST DO214AA SMB
pins: 1, 2

## SM6T75CAY
designator D?
TVS DIODE 64.1VWM 134VC SMB; Manufacturer: STMicroelectronics; Type: Zener; Bidirectional Channels: 1; Power - Peak Pulse: 600W; Current - Peak Pulse: 30A (8/20us); Voltage (Clamping): 134V; Voltage (Breakdown): 71.3V; Voltage (Reverse Standoff): 64.1V; Part Number: SM6T75CAY; PartId: 14696; Supplier 1: Digi-Key; Supplier Part Number 1: 497-11815-2-ND; ComponentLink1Description: Datasheet; ComponentLink1URL: http://www.st.com/web/en/resource/technical/document/datasheet/CD00279657.pdf; ComponentLink2Description: Digi-Key Listing; ComponentLink2URL: https://www.digikey.com/product-detail/en/stmicroelectronics/SM6T75CAY/497-11815-2-ND/2756527; Operating Temperature: -55C ~ 150C (TJ); Price: 0.2334; Device Package: DO-214AA, SMB
footprint ST DO214AA SMB
pins: 1, 2

## SM6T82AY
designator D?
TVS DIODE 70VWM 146VC SMB; Manufacturer: STMicroelectronics; Type: Zener; Unidirectional Channels: 1; Power - Peak Pulse: 600W; Current - Peak Pulse: 27A (8/20us); Voltage (Clamping): 146V; Voltage (Breakdown): 77.8V; Voltage (Reverse Standoff): 70V; Part Number: SM6T82AY; PartId: 14654; Supplier 1: Digi-Key; Supplier Part Number 1: 497-11817-2-ND; ComponentLink1Description: Datasheet; ComponentLink1URL: http://www.st.com/web/en/resource/technical/document/datasheet/CD00279657.pdf; ComponentLink2Description: Digi-Key Listing; ComponentLink2URL: https://www.digikey.com/product-detail/en/stmicroelectronics/SM6T82AY/497-11817-2-ND/2756531; Operating Temperature: -55C ~ 150C (TJ); Price: 0.2263; Device Package: DO-214AA, SMB
footprint ST DO214AA SMB
pins: 1, 2

## SM6T100A
designator D?
TVS DIODE 85.5VWM 178VC SMB; Manufacturer: STMicroelectronics; Type: Zener; Unidirectional Channels: 1; Power - Peak Pulse: 600W; Current - Peak Pulse: 22.5A (8/20us); Voltage (Clamping): 178V; Voltage (Breakdown): 95V; Voltage (Reverse Standoff): 85.5V; Part Number: SM6T100A; PartId: 14645; Supplier 1: Digi-Key; Supplier Part Number 1: 497-7426-2-ND; ComponentLink1Description: Datasheet; ComponentLink1URL: http://www.st.com/web/en/resource/technical/document/datasheet/CD00000725.pdf; ComponentLink2Description: Digi-Key Listing; ComponentLink2URL: https://www.digikey.com/product-detail/en/stmicroelectronics/SM6T100A/497-7426-2-ND/1039068; Operating Temperature: -55C ~ 150C (TJ); Price: 0.1336; Device Package: DO-214AA, SMB
footprint ST DO214AA SMB
pins: 1, 2

## SM6T100CA
designator D?
TVS DIODE 85.5VWM 178VC SMB; Manufacturer: STMicroelectronics; Type: Zener; Bidirectional Channels: 1; Power - Peak Pulse: 600W; Current - Peak Pulse: 22.5A (8/20us); Voltage (Clamping): 178V; Voltage (Breakdown): 95V; Voltage (Reverse Standoff): 85.5V; Part Number: SM6T100CA; PartId: 14674; Supplier 1: Digi-Key; Supplier Part Number 1: 497-7880-2-ND; ComponentLink1Description: Datasheet; ComponentLink1URL: http://www.st.com/web/en/resource/technical/document/datasheet/CD00000725.pdf; ComponentLink2Description: Digi-Key Listing; ComponentLink2URL: https://www.digikey.com/product-detail/en/stmicroelectronics/SM6T100CA/497-7880-2-ND/1039069; Operating Temperature: -55C ~ 150C (TJ); Price: 0.1435; Device Package: DO-214AA, SMB
footprint ST DO214AA SMB
pins: 1, 2

## SM6T150A
designator D?
TVS DIODE 128VWM 265VC SMB; Manufacturer: STMicroelectronics; Type: Zener; Unidirectional Channels: 1; Power - Peak Pulse: 600W; Current - Peak Pulse: 15A (8/20us); Voltage (Clamping): 265V; Voltage (Breakdown): 143V; Voltage (Reverse Standoff): 128V; Part Number: SM6T150A; PartId: 14642; Supplier 1: Digi-Key; Supplier Part Number 1: 497-7429-2-ND; ComponentLink1Description: Datasheet; ComponentLink1URL: http://www.st.com/web/en/resource/technical/document/datasheet/CD00000725.pdf; ComponentLink2Description: Digi-Key Listing; ComponentLink2URL: https://www.digikey.com/product-detail/en/stmicroelectronics/SM6T150A/497-7429-2-ND/1039074; Operating Temperature: -55C ~ 150C (TJ); Price: 0.1336; Device Package: DO-214AA, SMB
footprint ST DO214AA SMB
pins: 1, 2

## SM6T150CA
designator D?
TVS DIODE 128VWM 265VC SMB; Manufacturer: STMicroelectronics; Type: Zener; Bidirectional Channels: 1; Power - Peak Pulse: 600W; Current - Peak Pulse: 15A (8/20us); Voltage (Clamping): 265V; Voltage (Breakdown): 143V; Voltage (Reverse Standoff): 128V; Part Number: SM6T150CA; PartId: 14670; Supplier 1: Digi-Key; Supplier Part Number 1: 497-7881-2-ND; ComponentLink1Description: Datasheet; ComponentLink1URL: http://www.st.com/web/en/resource/technical/document/datasheet/CD00000725.pdf; ComponentLink2Description: Digi-Key Listing; ComponentLink2URL: https://www.digikey.com/product-detail/en/stmicroelectronics/SM6T150CA/497-7881-2-ND/1039075; Operating Temperature: -55C ~ 150C (TJ); Price: 0.1435; Device Package: DO-214AA, SMB
footprint ST DO214AA SMB
pins: 1, 2

## SM6T200A
designator D?
TVS DIODE 171VWM 353VC SMB; Manufacturer: STMicroelectronics; Type: Zener; Unidirectional Channels: 1; Power - Peak Pulse: 600W; Current - Peak Pulse: 11.3A (8/20us); Voltage (Clamping): 353V; Voltage (Breakdown): 190V; Voltage (Reverse Standoff): 171V; Part Number: SM6T200A; PartId: 14631; Supplier 1: Digi-Key; Supplier Part Number 1: 497-6490-2-ND; ComponentLink1Description: Datasheet; ComponentLink1URL: http://www.st.com/web/en/resource/technical/document/datasheet/CD00000725.pdf; ComponentLink2Description: Digi-Key Listing; ComponentLink2URL: https://www.digikey.com/product-detail/en/stmicroelectronics/SM6T200A/497-6490-2-ND/1039078; Operating Temperature: -55C ~ 150C (TJ); Price: 0.1336; Device Package: DO-214AA, SMB
footprint ST DO214AA SMB
pins: 1, 2